# EAGLE library part LOGIC,NBSG85A(ECL,CONFIGURABLE) (library QuantumOptics)
NBSG85A, ECL Logic, On Semi, configurable as AND/OR/XOR/MUX, PECL/CML/LVDS/LVTTL, Tr=40pS http://www.onsemi.com/pub/Collateral/NBSG86A-D.PDF
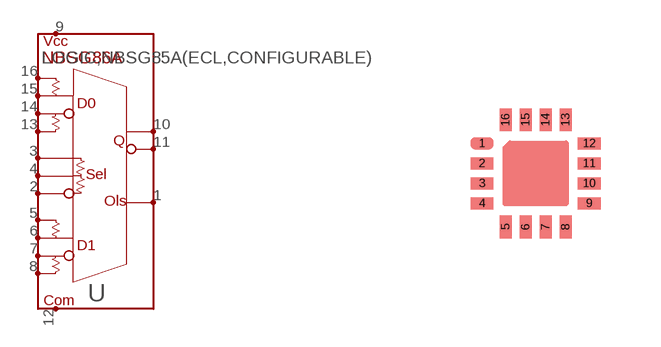
[diagram p93: symbol with the pads of QFN16#1; footprint QFN16#1]

Designator prefix U

## LOGIC,NBSG85A(ECL,CONFIGURABLE)-QFN16  [QFN16#1]
1  OLS  out
2  SEL-  in
3  SEL+  in
4  SEL-T  in
5  D1+T  in
6  D1+  in
7  D1-  in
8  D1-T  in
9  VCC1
10  Q+  out
11  Q-  out
12  COM1
13  D0-T  in
14  D0-  in
15  D0+  in
16  D0+T  in

## Footprint QFN16#1 (pad centres in mm)
QFN-16, taken from http://www.onsemi.com/pub/Collateral/NBSG86A-D.PDF
smd 0.575 x 0.3: 1 -1.34,0.75; 2 -1.34,0.25; 3 -1.34,-0.25; 4 -1.34,-0.75; 9 1.34,-0.75; 10 1.34,-0.25; 11 1.34,0.25; 12 1.34,0.75
smd 0.3 x 0.575: 5 -0.75,-1.34; 6 -0.25,-1.34; 7 0.25,-1.34; 8 0.75,-1.34; 13 0.75,1.34; 14 0.25,1.34; 15 -0.25,1.34; 16 -0.75,1.34